# Altium schematic symbol library SN65220.SchLib: 1 symbol
Pins are listed as number, name and electrical type; pins without a type are passive.

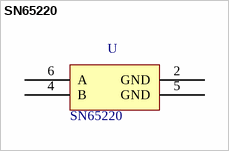
[diagram p0: symbol SN65220]

## SN65220
designator U  value SN65220  (hidden comment: *)
Manufacturer Code: SN65220DBVR; Manufacturer: Texas Instruments; Comments: USB ESD Protection IC; Farnell Code: 1470328; MOQ: 1; Unit Price: 0,931 €
footprint SOT23-6
pins: 2 GND, 4 B, 5 GND, 6 A